# Altium footprint library 19C2830103-JOB.PcbLib: 69 footprints (part 6 of 6)
Each footprint in its own frame and in the unit in brackets; x right, y up, seen from the top. Pads: shape width x height; smd on the part's side, far side on the other; paste and mask are expansions set on the pad; w line width, h text height; cw(c..) or ccw(c..) is an arc to the next point about the centre after c.
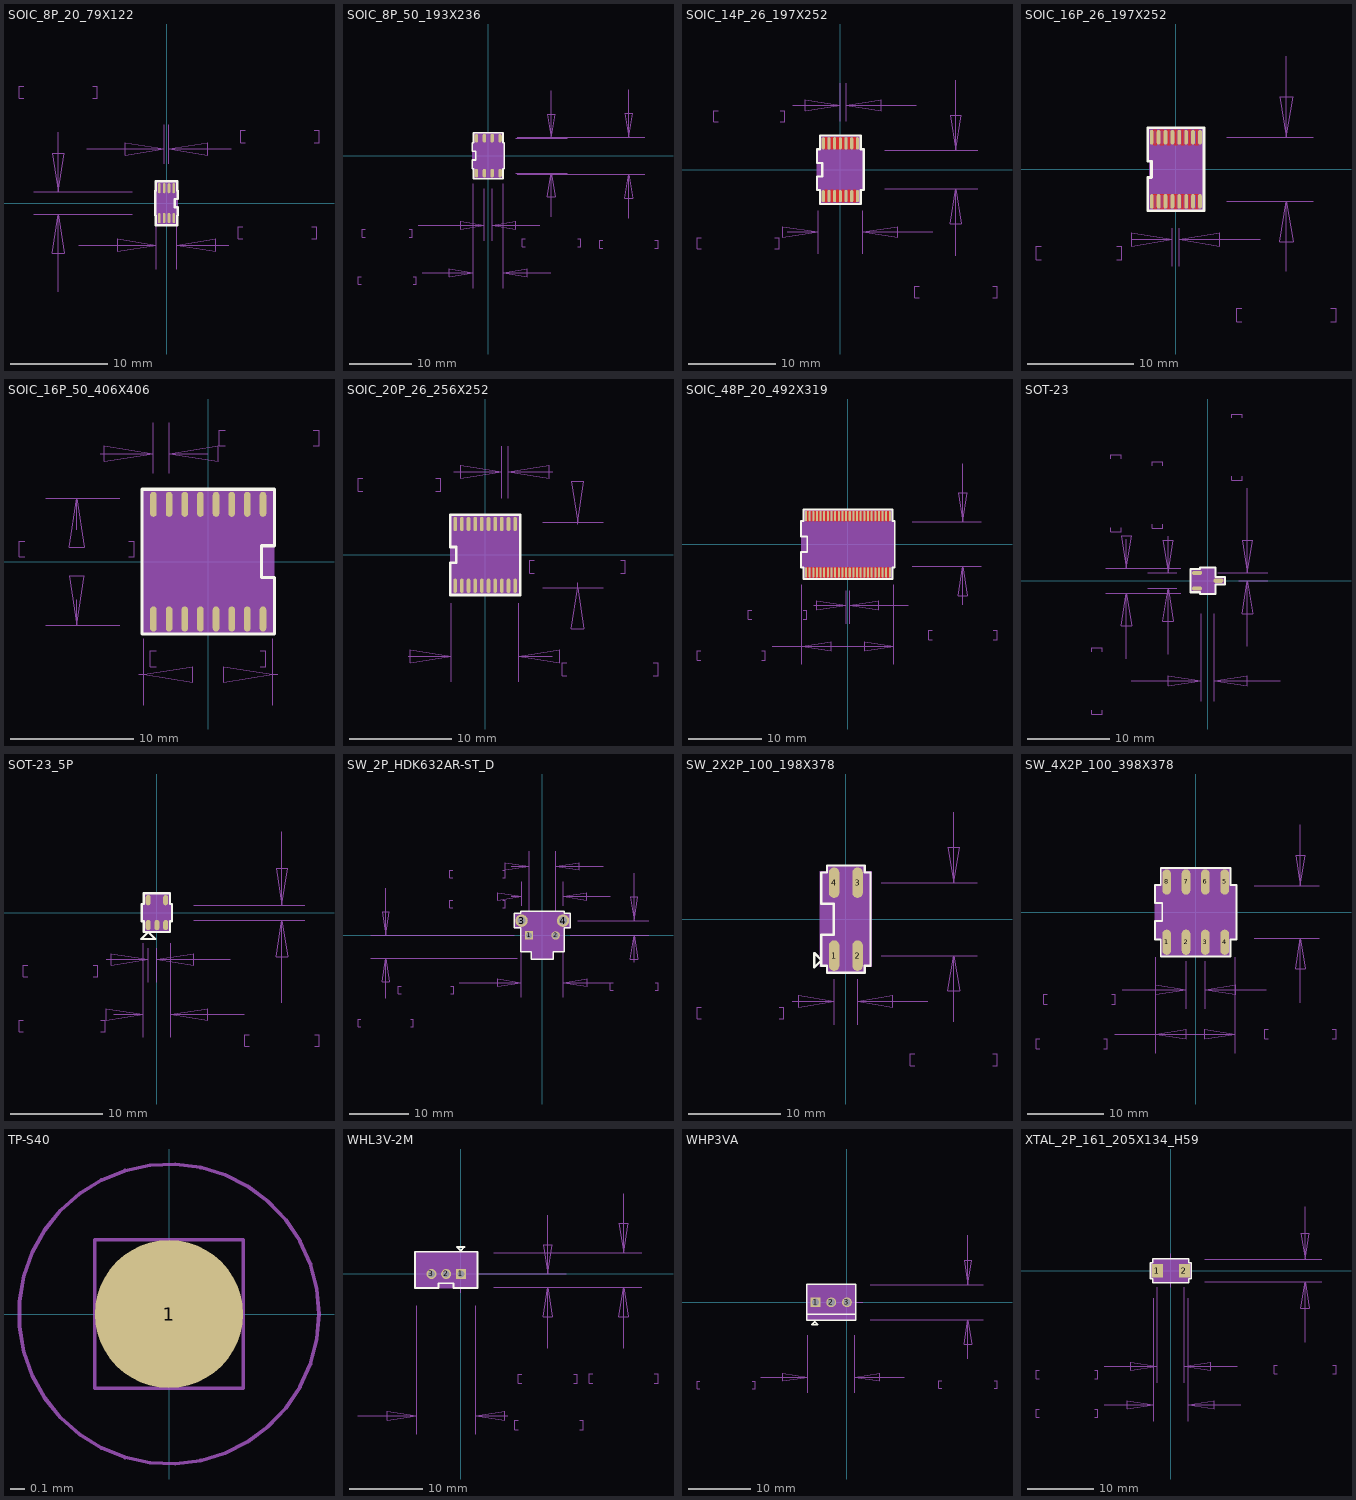
[diagram p5: the footprints below, top view; thin cyan lines are the x and y axes]

## SOIC_8P_20_79X122 [mil] "SOIC_8P_20_79X122"
pads (8):
  oval 11x41 smd: 1(29.53,60.61) 2(9.84,60.61) 3(-9.84,60.61) 4(-29.53,60.61) 5(-29.53,-60.61) 6(-9.84,-60.61) 7(9.84,-60.61) 8(29.53,-60.61)
Top Overlay:
  lines w10: -46.34,-50.28 -43.03,-50.28 -43.03,-89.11 43.03,-89.11 43.03,-50.28 46.34,-50.28 46.34,-16.76 32.93,-16.76 32.93,16.76 46.34,16.76 46.34,50.28 43.03,50.28 43.03,89.11 -43.03,89.11 -43.03,50.28 -46.34,50.28 -46.34,-50.28
  text ".Designator" at 5.4,15 h36
Mechanical 15:
  text "2" at -1.36,60.61 h28
  text "8" at 18.33,-60.61 h28
  text "7" at -1.36,-60.61 h28
  text "1" at 18.33,60.61 h28
  text "5" at -40.73,-60.61 h28
  text "4" at -40.73,60.61 h28
  text "6" at -21.04,-60.61 h28
  text "3" at -21.04,60.61 h28
Mechanical 16:
  pour cut-out: -43.03,-89.11 -43.03,-50.28 -46.34,-50.28 -46.34,50.28 -43.03,50.28 -43.03,89.11 43.03,89.11 43.03,50.28 46.34,50.28 46.34,-50.28 43.03,-50.28 43.03,-89.11
  region: 35.04,61.03 35.04,45.28 41.34,45.28 41.34,-45.28 35.04,-45.28 35.04,-61.03 24.02,-61.03 24.02,-45.28 15.35,-45.28 15.35,-61.03 4.33,-61.03 4.33,-45.28 -4.33,-45.28 -4.33,-61.03 -15.35,-61.03 -15.35,-45.28 -24.02,-45.28 -24.02,-61.03 -35.04,-61.03 -35.04,-45.28 -41.34,-45.28 -41.34,45.28 -35.04,45.28 -35.04,61.03 -24.02,61.03 -24.02,45.28 -15.35,45.28 -15.35,61.03 -4.33,61.03 -4.33,45.28 4.33,45.28 4.33,61.03 15.35,61.03 15.35,45.28 24.02,45.28 24.02,61.03
  lines w1: -580,425 -599,425 -599,475 -580,475 ; -538.43,-45.28 -139.76,-45.28 ; -538.43,45.28 -139.76,45.28 ; -440,-360.24 -440,-45.28 ; -440,287.5 -440,45.28 ; -356.3,-170 -41.34,-170 ; -324.8,220 -9.84,220 ; -300,425 -281,425 -281,475 -300,475 ; -41.34,-268.43 -41.34,-53.15 ; -9.84,159.04 -9.84,318.43 ; 9.84,159.04 9.84,318.43 ; 41.34,-268.43 41.34,-53.15 ; 253.5,-170 41.34,-170 ; 263.5,220 9.84,220 ; 310,-145 291,-145 291,-95 310,-95 ; 320,245 301,245 301,295 320,295 ; 590,-145 609,-145 609,-95 590,-95 ; 600,245 619,245 619,295 600,295 ; -440,-45.28 -415.39,-202.76 -464.61,-202.76 -440,-45.28 ; -440,45.28 -464.61,202.76 -415.39,202.76 -440,45.28 ; -41.34,-170 -198.82,-194.61 -198.82,-145.39 -41.34,-170 ; -9.84,220 -167.32,195.39 -167.32,244.61 -9.84,220 ; 9.84,220 167.32,244.61 167.32,195.39 9.84,220 ; 41.34,-170 198.82,-145.39 198.82,-194.61 41.34,-170 ; -41.34,-45.28 41.34,-45.28 41.34,45.28 -41.34,45.28 -41.34,-45.28 ; -35.04,-61.03 -24.02,-61.03 -24.02,-50.03 -35.04,-50.03 -35.04,-61.03 ; -35.04,50.03 -24.02,50.03 -24.02,61.03 -35.04,61.03 -35.04,50.03 ; -15.35,-61.03 -4.33,-61.03 -4.33,-50.03 -15.35,-50.03 -15.35,-61.03 ; -15.35,50.03 -4.33,50.03 -4.33,61.03 -15.35,61.03 -15.35,50.03 ; 4.33,-61.03 15.35,-61.03 15.35,-50.03 4.33,-50.03 4.33,-61.03 ; 4.33,50.03 15.35,50.03 15.35,61.03 4.33,61.03 4.33,50.03 ; 24.02,-61.03 35.04,-61.03 35.04,-50.03 24.02,-50.03 24.02,-61.03 ; 24.02,50.03 35.04,50.03 35.04,61.03 24.02,61.03 24.02,50.03
Mechanical 17:
  text "0.5" at 530,195 h36
  text "19.69" at 581,295 h36
  text "2.1" at 520,-195 h36
  text "82.68" at 571,-95 h36
  text "2.3" at -370,375 h36
  text "90.55" at -319,475 h36
3D body: height 150, standoff 0, extent -41.34,-61.03 41.34,61.03

## SOIC_8P_50_193X236 [mil] "SOIC_8P_50_193X236"
pads (8):
  oval 21x55 smd: 1(-75,-110.61) 2(-25,-110.61) 3(25,-110.61) 4(75,-110.61) 5(75,110.61) 6(25,110.61) 7(-25,110.61) 8(-75,110.61)
Top Overlay:
  lines w10: -101.5,-82 -101.5,-27.33 -79.63,-27.33 -79.63,27.33 -101.5,27.33 -101.5,82 -93.5,82 -93.5,146.11 93.5,146.11 93.5,82 101.5,82 101.5,-82 93.5,-82 93.5,-146.11 -93.5,-146.11 -93.5,-82 -101.5,-82
Mechanical 15:
  text "8" at -63.8,110.61 h28
  text "6" at 36.2,110.61 h28
  text "4" at 86.2,-110.61 h28
  text "3" at 36.2,-110.61 h28
  text "2" at -13.8,-110.61 h28
  text "1" at -63.8,-110.61 h28
  text "5" at 86.2,110.61 h28
  text "7" at -13.8,110.61 h28
Mechanical 16:
  pour cut-out: -93.5,82 -93.5,146.11 93.5,146.11 93.5,82 101.5,82 101.5,-82 93.5,-82 93.5,-146.11 -93.5,-146.11 -93.5,-82 -101.5,-82 -101.5,82
  region: -83.46,-118.03 -83.46,-77 -96.5,-77 -96.5,77 -83.46,77 -83.46,118.03 -66.54,118.03 -66.54,77 -33.46,77 -33.46,118.03 -16.54,118.03 -16.54,77 16.54,77 16.54,118.03 33.46,118.03 33.46,77 66.54,77 66.54,118.03 83.46,118.03 83.46,77 96.5,77 96.5,-77 83.46,-77 83.46,-118.03 66.54,-118.03 66.54,-77 33.46,-77 33.46,-118.03 16.54,-118.03 16.54,-77 -16.54,-77 -16.54,-118.03 -33.46,-118.03 -33.46,-77 -66.54,-77 -66.54,-118.03
  lines w1: -805.5,-815 -824.5,-815 -824.5,-765 -805.5,-765 ; -780,-515 -799,-515 -799,-465 -780,-465 ; -500,-515 -481,-515 -481,-465 -500,-465 ; -474.5,-815 -455.5,-815 -455.5,-765 -474.5,-765 ; -443.5,-440 -25,-440 ; -418,-740 -96.5,-740 ; -96.5,-840 -96.5,-177 ; -25,-540 -25,-210.61 ; 25,-540 25,-210.61 ; 96.5,-840 96.5,-177 ; 175,-110.61 500,-110.61 ; 175,110.61 500,110.61 ; 183.46,-118.03 990,-118.03 ; 183.46,118.03 990,118.03 ; 234.5,-575 215.5,-575 215.5,-525 234.5,-525 ; 325,-440 25,-440 ; 396.5,-740 96.5,-740 ; 400,-387.5 400,-110.61 ; 400,410.61 400,110.61 ; 565.5,-575 584.5,-575 584.5,-525 565.5,-525 ; 724.5,-585 705.5,-585 705.5,-535 724.5,-535 ; 890,-397.5 890,-118.03 ; 890,418.03 890,118.03 ; 1055.5,-585 1074.5,-585 1074.5,-535 1055.5,-535 ; -96.5,-740 -246.5,-765 -246.5,-715 -96.5,-740 ; -25,-440 -175,-465 -175,-415 -25,-440 ; 25,-440 175,-415 175,-465 25,-440 ; 96.5,-740 246.5,-715 246.5,-765 96.5,-740 ; 400,-110.61 425,-260.61 375,-260.61 400,-110.61 ; 400,110.61 375,260.61 425,260.61 400,110.61 ; 890,-118.03 915,-268.03 865,-268.03 890,-118.03 ; 890,118.03 865,268.03 915,268.03 890,118.03 ; -96.5,-77 -96.5,77 96.5,77 96.5,-77 -96.5,-77 ; -83.46,-118.03 -83.46,-93.03 -66.54,-93.03 -66.54,-118.03 -83.46,-118.03 ; -83.46,93.03 -83.46,118.03 -66.54,118.03 -66.54,93.03 -83.46,93.03 ; -33.46,-118.03 -33.46,-93.03 -16.54,-93.03 -16.54,-118.03 -33.46,-118.03 ; -33.46,93.03 -33.46,118.03 -16.54,118.03 -16.54,93.03 -33.46,93.03 ; 16.54,-118.03 16.54,-93.03 33.46,-93.03 33.46,-118.03 16.54,-118.03 ; 16.54,93.03 16.54,118.03 33.46,118.03 33.46,93.03 16.54,93.03 ; 66.54,-118.03 66.54,-93.03 83.46,-93.03 83.46,-118.03 66.54,-118.03 ; 66.54,93.03 66.54,118.03 83.46,118.03 83.46,93.03 66.54,93.03
Mechanical 17:
  text "50.00" at -761,-515 h36
  text "1.27" at -735.5,-415 h36
  text "193.00" at -786.5,-815 h36
  text "4.9" at -710,-715 h36
  text "236.06" at 743.5,-585 h36
  text "6" at 871,-485 h36
  text "221.22" at 253.5,-575 h36
  text "5.62" at 304.5,-475 h36
Mechanical 21:
  text ".Designator" at 33.6,13.5 h28
3D body: height 150, standoff 0, extent -96.5,-118.03 96.5,118.03

## SOIC_14P_26_197X252 [mil] "SOIC_14P_26_197X252"
pads (14):
  oval 14x55 smd: 1(-76.77,-118.68) 2(-51.18,-118.68) 3(-25.59,-118.68) 4(0,-118.68) 5(25.59,-118.68) 6(51.18,-118.68) 7(76.77,-118.68) 8(76.77,118.68) 9(51.18,118.68) 10(25.59,118.68) 11(0,118.68) 12(-25.59,118.68) 13(-51.18,118.68) 14(-76.77,118.68)
Top Layer:
  region: 63.97,91.18 69.77,91.18 69.77,146.18 63.97,146.18
  region: 58.18,91.18 63.98,91.18 63.98,146.18 58.18,146.18
  region: 38.38,91.18 44.18,91.18 44.18,146.18 38.38,146.18
  region: 32.59,91.18 38.38,91.18 38.38,146.18 32.59,146.18
  region: 12.8,91.18 18.59,91.18 18.59,146.18 12.8,146.18
  region: 7,91.18 12.8,91.18 12.8,146.18 7,146.18
  region: -12.8,91.18 -7,91.18 -7,146.18 -12.8,146.18
  region: -18.59,91.18 -12.8,91.18 -12.8,146.18 -18.59,146.18
  region: -38.38,91.18 -32.59,91.18 -32.59,146.18 -38.38,146.18
  region: -44.18,91.18 -38.38,91.18 -38.38,146.18 -44.18,146.18
  region: -63.98,91.18 -58.18,91.18 -58.18,146.18 -63.98,146.18
  region: -69.77,91.18 -63.97,91.18 -63.97,146.18 -69.77,146.18
  region: 63.97,-146.18 69.77,-146.18 69.77,-91.18 63.97,-91.18
  region: 58.18,-146.18 63.98,-146.18 63.98,-91.18 58.18,-91.18
  region: 38.38,-146.18 44.18,-146.18 44.18,-91.18 38.38,-91.18
  region: 32.59,-146.18 38.38,-146.18 38.38,-91.18 32.59,-91.18
  region: 12.8,-146.18 18.59,-146.18 18.59,-91.18 12.8,-91.18
  region: 7,-146.18 12.8,-146.18 12.8,-91.18 7,-91.18
  region: -12.8,-146.18 -7,-146.18 -7,-91.18 -12.8,-91.18
  region: -18.59,-146.18 -12.8,-146.18 -12.8,-91.18 -18.59,-91.18
  region: -38.38,-146.18 -32.59,-146.18 -32.59,-91.18 -38.38,-91.18
  region: -44.18,-146.18 -38.38,-146.18 -38.38,-91.18 -44.18,-91.18
  region: -63.98,-146.18 -58.18,-146.18 -58.18,-91.18 -63.98,-91.18
  region: -69.77,-146.18 -63.97,-146.18 -63.97,-91.18 -69.77,-91.18
Top Overlay:
  lines w10: -105.39,-91.61 -105.39,-30.54 -80.96,-30.54 -80.96,30.54 -105.39,30.54 -105.39,91.61 -91.77,91.61 -91.77,154.18 91.77,154.18 91.77,91.61 105.39,91.61 105.39,-91.61 91.77,-91.61 91.77,-154.18 -91.77,-154.18 -91.77,-91.61 -105.39,-91.61
Mechanical 15:
  text "14" at -76.77,96.28 h28
  text "8" at 76.77,107.48 h28
  text "6" at 51.18,-129.88 h28
  text "2" at -51.18,-129.88 h28
  text "1" at -76.77,-129.88 h28
  text "9" at 51.18,107.48 h28
  text "11" at 0,96.28 h28
  text "4" at 0,-129.88 h28
  text "12" at -25.59,96.28 h28
  text "10" at 25.59,96.28 h28
  text "5" at 25.59,-129.88 h28
  text "13" at -51.18,96.28 h28
  text "7" at 76.77,-129.88 h28
  text "3" at -25.59,-129.88 h28
Mechanical 16:
  drawing of 110 lines, arcs and shapes, not listed
Mechanical 17:
  text "173.23" at 373.5,-575 h36
  text "4.4" at 450,-475 h36
  text "200.79" at -606.5,-355 h36
  text "5.1" at -530,-255 h36
  text "25.59" at -531,215 h36
  text "0.65" at -505.5,315 h36
Mechanical 21:
  text ".Designator" at 0,-20.1 h28
3D body: height 150, standoff 0, extent -100.39,-126.1 100.39,126.1

## SOIC_16P_26_197X252 [mil] "SOIC_16P_26_197X252"
pads (16):
  oval 14x54 smd: 1(-89.57,-118.98) 2(-63.98,-118.98) 3(-38.39,-118.98) 4(-12.8,-118.98) 5(12.8,-118.98) 6(38.39,-118.98) 7(63.98,-118.98) 8(89.57,-118.98) 9(89.57,118.98) 10(63.98,118.98) 11(38.39,118.98) 12(12.8,118.98) 13(-12.8,118.98) 14(-38.39,118.98) 15(-63.98,118.98) 16(-89.57,118.98)
Top Layer:
  lines w1: -76.77,-145.98 -82.57,-145.98 -82.57,-91.98 -76.77,-91.98 ; -76.77,-145.98 -76.77,-91.98 ; -76.77,-145.98 -70.98,-145.98 -70.98,-91.98 -76.77,-91.98 ; -76.77,-145.98 -76.77,-91.98 ; -76.77,91.98 -82.57,91.98 -82.57,145.98 -76.77,145.98 ; -76.77,91.98 -76.77,145.98 ; -76.77,91.98 -70.98,91.98 -70.98,145.98 -76.77,145.98 ; -76.77,91.98 -76.77,145.98 ; -51.18,-145.98 -56.98,-145.98 -56.98,-91.98 -51.18,-91.98 ; -51.18,-145.98 -51.18,-91.98 ; -51.18,-145.98 -45.39,-145.98 -45.39,-91.98 -51.18,-91.98 ; -51.18,-145.98 -51.18,-91.98 ; -51.18,91.98 -56.98,91.98 -56.98,145.98 -51.18,145.98 ; -51.18,91.98 -51.18,145.98 ; -51.18,91.98 -45.39,91.98 -45.39,145.98 -51.18,145.98 ; -51.18,91.98 -51.18,145.98 ; -25.6,-145.98 -31.39,-145.98 -31.39,-91.98 -25.6,-91.98 ; -25.6,-145.98 -25.6,-91.98 ; -25.6,-145.98 -19.8,-145.98 -19.8,-91.98 -25.6,-91.98 ; -25.6,-145.98 -25.6,-91.98 ; -25.6,91.98 -31.39,91.98 -31.39,145.98 -25.6,145.98 ; -25.6,91.98 -25.6,145.98 ; -25.6,91.98 -19.8,91.98 -19.8,145.98 -25.6,145.98 ; -25.6,91.98 -25.6,145.98 ; -0.01,-145.98 -5.8,-145.98 -5.8,-91.98 -0.01,-91.98 ; -0.01,-145.98 -0.01,-91.98 ; 0.01,-145.98 5.8,-145.98 5.8,-91.98 0.01,-91.98 ; 0.01,-145.98 0.01,-91.98 ; -0.01,91.98 -5.8,91.98 -5.8,145.98 -0.01,145.98 ; -0.01,91.98 -0.01,145.98 ; 0.01,91.98 5.8,91.98 5.8,145.98 0.01,145.98 ; 0.01,91.98 0.01,145.98 ; 25.6,-145.98 19.8,-145.98 19.8,-91.98 25.6,-91.98 ; 25.6,-145.98 25.6,-91.98 ; 25.6,-145.98 31.39,-145.98 31.39,-91.98 25.6,-91.98 ; 25.6,-145.98 25.6,-91.98 ; 25.6,91.98 19.8,91.98 19.8,145.98 25.6,145.98 ; 25.6,91.98 25.6,145.98 ; 25.6,91.98 31.39,91.98 31.39,145.98 25.6,145.98 ; 25.6,91.98 25.6,145.98 ; 51.18,-145.98 45.39,-145.98 45.39,-91.98 51.18,-91.98 ; 51.18,-145.98 51.18,-91.98 ; 51.18,-145.98 56.98,-145.98 56.98,-91.98 51.18,-91.98 ; 51.18,-145.98 51.18,-91.98 ; 51.18,91.98 45.39,91.98 45.39,145.98 51.18,145.98 ; 51.18,91.98 51.18,145.98 ; 51.18,91.98 56.98,91.98 56.98,145.98 51.18,145.98 ; 51.18,91.98 51.18,145.98 ; 76.77,-145.98 70.98,-145.98 70.98,-91.98 76.77,-91.98 ; 76.77,-145.98 76.77,-91.98 ; 76.77,-145.98 82.57,-145.98 82.57,-91.98 76.77,-91.98 ; 76.77,-145.98 76.77,-91.98 ; 76.77,91.98 70.98,91.98 70.98,145.98 76.77,145.98 ; 76.77,91.98 76.77,145.98 ; 76.77,91.98 82.57,91.98 82.57,145.98 76.77,145.98 ; 76.77,91.98 76.77,145.98
Top Overlay:
  lines w10: -104.57,-153.98 -94.57,-153.98 104.57,-153.98 104.57,-143.98 104.57,153.98 94.57,153.98 -104.57,153.98 -104.57,30 -90,30 -90,-30 -104.57,-30 -104.57,-153.98
Mechanical 15:
  text "6" at 27.19,-118.98 h28
  text "5" at 1.6,-118.98 h28
  text "7" at 52.78,-118.98 h28
  text "4" at -24,-118.98 h28
  text "16" at -111.97,118.98 h28
  text "1" at -100.77,-118.98 h28
  text "11" at 15.99,118.98 h28
  text "10" at 41.58,118.98 h28
  text "15" at -86.38,118.98 h28
  text "9" at 78.37,118.98 h28
  text "14" at -60.79,118.98 h28
  text "2" at -75.18,-118.98 h28
  text "3" at -49.59,-118.98 h28
  text "8" at 78.37,-118.98 h28
  text "13" at -35.2,118.98 h28
  text "12" at -9.6,118.98 h28
Mechanical 16:
  pour cut-out: -104.57,153.98 104.57,153.98 104.57,-153.98 -104.57,-153.98 -104.57,-30 -90,-30 -90,30 -104.57,30
  region: -96.65,-125.91 -96.65,-86.61 -98.43,-86.61 -98.43,86.61 -96.65,86.61 -96.65,125.91 -82.48,125.91 -82.48,86.61 -71.06,86.61 -71.06,125.91 -56.89,125.91 -56.89,86.61 -45.47,86.61 -45.47,125.91 -31.3,125.91 -31.3,86.61 -19.88,86.61 -19.88,125.91 -5.71,125.91 -5.71,86.61 5.71,86.61 5.71,125.91 19.88,125.91 19.88,86.61 31.3,86.61 31.3,125.91 45.47,125.91 45.47,86.61 56.89,86.61 56.89,125.91 71.06,125.91 71.06,86.61 82.48,86.61 82.48,125.91 96.65,125.91 96.65,86.61 98.43,86.61 98.43,-86.61 96.65,-86.61 96.65,-125.91 82.48,-125.91 82.48,-86.61 71.06,-86.61 71.06,-125.91 56.89,-125.91 56.89,-86.61 45.47,-86.61 45.47,-125.91 31.3,-125.91 31.3,-86.61 19.88,-86.61 19.88,-125.91 5.71,-125.91 5.71,-86.61 -5.71,-86.61 -5.71,-125.91 -19.88,-125.91 -19.88,-86.61 -31.3,-86.61 -31.3,-125.91 -45.47,-125.91 -45.47,-86.61 -56.89,-86.61 -56.89,-125.91 -71.06,-125.91 -71.06,-86.61 -82.48,-86.61 -82.48,-125.91
  lines w1: -500,-335 -519,-335 -519,-285 -500,-285 ; -220,-335 -201,-335 -201,-285 -220,-285 ; -163.5,-260 -12.8,-260 ; -12.8,-360 -12.8,-218.98 ; 12.8,-360 12.8,-218.98 ; 189.57,-118.98 510,-118.98 ; 189.57,118.98 510,118.98 ; 244.5,-565 225.5,-565 225.5,-515 244.5,-515 ; 312.8,-260 12.8,-260 ; 410,-377.5 410,-118.98 ; 410,418.98 410,118.98 ; 575.5,-565 594.5,-565 594.5,-515 575.5,-515 ; -12.8,-260 -162.8,-285 -162.8,-235 -12.8,-260 ; 12.8,-260 162.8,-235 162.8,-285 12.8,-260 ; 410,-118.98 435,-268.98 385,-268.98 410,-118.98 ; 410,118.98 385,268.98 435,268.98 410,118.98
Mechanical 17:
  text "0.65" at -455.5,-235 h36
  text "25.59" at -481,-335 h36
  text "6.04" at 314.5,-465 h36
  text "237.97" at 263.5,-565 h36
3D body: height 150, standoff 0, extent -98.43,-125.91 98.43,125.91

## SOIC_16P_50_406X406 [mil] "SOIC_16P_50_406X406"
pads (16):
  oval 21x80 smd: 1(175,183.25) 2(125,183.25) 3(75,183.25) 4(25,183.25) 5(-25,183.25) 6(-75,183.25) 7(-125,183.25) 8(-175,183.25) 9(-175,-183.25) 10(-125,-183.25) 11(-75,-183.25) 12(-25,-183.25) 13(25,-183.25) 14(75,-183.25) 15(125,-183.25) 16(175,-183.25)
Top Overlay:
  lines w10: -211.5,-231.25 211.5,-231.25 211.5,-51.01 170.69,-51.01 170.69,51.01 211.5,51.01 211.5,231.25 -211.5,231.25 -211.5,-231.25
  text ".Designator" at -12.8,-248.67 h28
Mechanical 15:
  text "16" at 155,-183.25 h25
  text "2" at 115,183.25 h25
  text "9" at -185,-183.25 h25
  text "1" at 165,183.25 h25
  text "8" at -185,183.25 h25
  text "10" at -145,-183.25 h25
  text "15" at 105,-183.25 h25
  text "7" at -135,183.25 h25
  text "14" at 55,-183.25 h25
  text "13" at 5,-183.25 h25
  text "12" at -45,-183.25 h25
  text "11" at -95,-183.25 h25
  text "6" at -85,183.25 h25
  text "5" at -35,183.25 h25
  text "4" at 15,183.25 h25
  text "3" at 65,183.25 h25
Mechanical 16:
  drawing of 118 lines, arcs and shapes, not listed
Mechanical 17:
  text "10.32" at -299,-35 h50
  text "406.34" at -273.5,65 h50
  text "10.49" at 121,-385 h50
  text "413.00" at 146.5,-285 h50
  text "1.27" at 290.5,320 h50
  text "50.00" at 316,420 h50
3D body: height 150, standoff 0, extent -206.5,-203.17 206.5,203.17

## SOIC_20P_26_256X252 [mil] "SOIC_20P_26_256X252"
pads (20):
  oval 14x55 smd: 1(-115.16,-118.68) 2(-89.57,-118.68) 3(-63.98,-118.68) 4(-38.39,-118.68) 5(-12.8,-118.68) 6(12.8,-118.68) 7(38.39,-118.68) 8(63.98,-118.68) 9(89.57,-118.68) 10(115.16,-118.68) 11(115.16,118.68) 12(89.57,118.68) 13(63.98,118.68) 14(38.39,118.68) 15(12.8,118.68) 16(-12.8,118.68) 17(-38.39,118.68) 18(-63.98,118.68) 19(-89.57,118.68) 20(-115.16,118.68)
Top Overlay:
  lines w10: -134.92,-154.18 134.92,-154.18 ; -134.92,-154.17 -134.92,-30.54 -110.49,-30.54 -110.49,30.54 -134.92,30.54 -134.92,154.17 ; -134.92,154.18 134.92,154.18 ; 134.92,-154.17 134.92,154.17
Mechanical 15:
  text "14" at 38.39,96.28 h28
  text "13" at 63.98,96.28 h28
  text "15" at 12.8,96.28 h28
  text "16" at -12.8,96.28 h28
  text "17" at -38.39,96.28 h28
  text "18" at -63.98,96.28 h28
  text "20" at -115.16,96.28 h28
  text "19" at -89.57,96.28 h28
  text "2" at -89.57,-129.88 h28
  text "10" at 115.16,-141.08 h28
  text "11" at 115.16,96.28 h28
  text "9" at 89.57,-129.88 h28
  text "12" at 89.57,96.28 h28
  text "6" at 12.8,-129.88 h28
  text "5" at -12.8,-129.88 h28
  text "4" at -38.39,-129.88 h28
  text "3" at -63.98,-129.88 h28
  text "1" at -115.16,-129.88 h28
  text "8" at 63.98,-129.88 h28
  text "7" at 38.39,-129.88 h28
Mechanical 16:
  pour cut-out: 134.92,154.18 134.92,-154.18 -134.92,-154.18 -134.92,154.18
  region: -122.24,-126.1 -122.24,-86.61 -129.92,-86.61 -129.92,86.61 -122.24,86.61 -122.24,126.1 122.24,126.1 122.24,86.61 129.92,86.61 129.92,-86.61 122.24,-86.61 122.24,-126.1
  lines w1: -470,245 -489,245 -489,295 -470,295 ; -295,-390 -129.92,-390 ; -190,245 -171,245 -171,295 -190,295 ; -129.92,-488.43 -129.92,-185.04 ; -120,320 63.98,320 ; 63.98,217.11 63.98,418.43 ; 89.57,217.11 89.57,418.43 ; 129.92,-488.43 129.92,-185.04 ; 189.5,-70 170.5,-70 170.5,-20 189.5,-20 ; 220.67,-126.1 453.43,-126.1 ; 220.67,126.1 453.43,126.1 ; 258,-390 129.92,-390 ; 260,320 89.57,320 ; 314.5,-465 295.5,-465 295.5,-415 314.5,-415 ; 355,-107.5 355,-126.1 ; 355,117.5 355,126.1 ; 520.5,-70 539.5,-70 539.5,-20 520.5,-20 ; 645.5,-465 664.5,-465 664.5,-415 645.5,-415 ; -129.92,-390 -287.4,-414.6 -287.4,-365.4 -129.92,-390 ; 63.98,320 -93.5,295.4 -93.5,344.6 63.98,320 ; 89.57,320 247.05,344.6 247.05,295.4 89.57,320 ; 129.92,-390 287.4,-365.4 287.4,-414.6 129.92,-390 ; 355,-126.1 379.6,-283.58 330.4,-283.58 355,-126.1 ; 355,126.1 330.4,283.58 379.6,283.58 355,126.1 ; -129.92,-86.61 129.92,-86.61 129.92,86.61 -129.92,86.61 -129.92,-86.61 ; -122.24,-126.1 -108.07,-126.1 -108.07,-101.5 -122.24,-101.5 -122.24,-126.1 ; -122.24,101.5 -108.07,101.5 -108.07,126.1 -122.24,126.1 -122.24,101.5 ; -96.65,-126.1 -82.48,-126.1 -82.48,-101.5 -96.65,-101.5 -96.65,-126.1 ; -96.65,101.5 -82.48,101.5 -82.48,126.1 -96.65,126.1 -96.65,101.5 ; -71.06,-126.1 -56.89,-126.1 -56.89,-101.5 -71.06,-101.5 -71.06,-126.1 ; -71.06,101.5 -56.89,101.5 -56.89,126.1 -71.06,126.1 -71.06,101.5 ; -45.47,-126.1 -31.3,-126.1 -31.3,-101.5 -45.47,-101.5 -45.47,-126.1 ; -45.47,101.5 -31.3,101.5 -31.3,126.1 -45.47,126.1 -45.47,101.5 ; -19.88,-126.1 -5.71,-126.1 -5.71,-101.5 -19.88,-101.5 -19.88,-126.1 ; -19.88,101.5 -5.71,101.5 -5.71,126.1 -19.88,126.1 -19.88,101.5 ; 5.71,-126.1 19.88,-126.1 19.88,-101.5 5.71,-101.5 5.71,-126.1 ; 5.71,101.5 19.88,101.5 19.88,126.1 5.71,126.1 5.71,101.5 ; 31.3,-126.1 45.47,-126.1 45.47,-101.5 31.3,-101.5 31.3,-126.1 ; 31.3,101.5 45.47,101.5 45.47,126.1 31.3,126.1 31.3,101.5 ; 56.89,-126.1 71.06,-126.1 71.06,-101.5 56.89,-101.5 56.89,-126.1 ; 56.89,101.5 71.06,101.5 71.06,126.1 56.89,126.1 56.89,101.5 ; 82.48,-126.1 96.65,-126.1 96.65,-101.5 82.48,-101.5 82.48,-126.1 ; 82.48,101.5 96.65,101.5 96.65,126.1 82.48,126.1 82.48,101.5 ; 108.07,-126.1 122.24,-126.1 122.24,-101.5 108.07,-101.5 108.07,-126.1 ; 108.07,101.5 122.24,101.5 122.24,126.1 108.07,126.1 108.07,101.5
Mechanical 17:
  text "6.41" at 259.5,30 h36
  text "252.20" at 208.5,-70 h36
  text "6.6" at 410,-365 h36
  text "259.84" at 333.5,-465 h36
  text "0.65" at -425.5,345 h36
  text "25.59" at -451,245 h36
3D body: height 150, standoff 0, extent -129.92,-126.1 129.92,126.1

## SOIC_48P_20_492X319 [mil] "SOIC_48P_20_492X319"
pads (48):
  oval 11x55 smd: 1(-226.38,-152.15) 2(-206.69,-152.15) 3(-187.01,-152.15) 4(-167.32,-152.15) 5(-147.64,-152.15) 6(-127.95,-152.15) 7(-108.27,-152.15) 8(-88.58,-152.15) 9(-68.9,-152.15) 10(-49.21,-152.15) 11(-29.53,-152.15) 12(-9.84,-152.15) 13(9.84,-152.15) 14(29.53,-152.15) 15(49.21,-152.15) 16(68.9,-152.15) 17(88.58,-152.15) 18(108.27,-152.15) 19(127.95,-152.15) 20(147.64,-152.15) 21(167.32,-152.15) 22(187.01,-152.15) 23(206.69,-152.15) 24(226.38,-152.15) 25(226.38,152.15) 26(206.69,152.15) 27(187.01,152.15) 28(167.32,152.15) 29(147.64,152.15) 30(127.95,152.15) 31(108.27,152.15) 32(88.58,152.15) 33(68.9,152.15) 34(49.21,152.15) 35(29.53,152.15) 36(9.84,152.15) 37(-9.84,152.15) 38(-29.53,152.15) 39(-49.21,152.15) 40(-68.9,152.15) 41(-88.58,152.15) 42(-108.27,152.15) 43(-127.95,152.15) 44(-147.64,152.15) 45(-167.32,152.15) 46(-187.01,152.15) 47(-206.69,152.15) 48(-226.38,152.15)
Top Layer:
  region: 216.54,124.65 216.54,179.65 220.88,179.65 220.88,124.65
  region: 212.19,124.65 212.19,179.65 216.54,179.65 216.54,124.65
  region: 196.84,124.65 196.84,179.65 201.19,179.65 201.19,124.65
  region: 192.51,124.65 192.51,179.65 196.86,179.65 196.86,124.65
  region: 177.16,124.65 177.16,179.65 181.51,179.65 181.51,124.65
  region: 172.82,124.65 172.82,179.65 177.16,179.65 177.16,124.65
  region: 157.48,124.65 157.48,179.65 161.82,179.65 161.82,124.65
  region: 153.14,124.65 153.14,179.65 157.48,179.65 157.48,124.65
  region: 137.79,124.65 137.79,179.65 142.14,179.65 142.14,124.65
  region: 133.45,124.65 133.45,179.65 137.8,179.65 137.8,124.65
  region: 118.1,124.65 118.1,179.65 122.45,179.65 122.45,124.65
  region: 113.77,124.65 113.77,179.65 118.12,179.65 118.12,124.65
  region: 98.42,124.65 98.42,179.65 102.77,179.65 102.77,124.65
  region: 94.08,124.65 94.08,179.65 98.42,179.65 98.42,124.65
  region: 78.74,124.65 78.74,179.65 83.08,179.65 83.08,124.65
  region: 74.4,124.65 74.4,179.65 78.74,179.65 78.74,124.65
  region: 59.06,124.65 59.06,179.65 63.4,179.65 63.4,124.65
  region: 54.71,124.65 54.71,179.65 59.06,179.65 59.06,124.65
  region: 39.36,124.65 39.36,179.65 43.71,179.65 43.71,124.65
  region: 35.03,124.65 35.03,179.65 39.38,179.65 39.38,124.65
  region: 19.69,124.65 19.69,179.65 24.03,179.65 24.03,124.65
  region: 15.34,124.65 15.34,179.65 19.69,179.65 19.69,124.65
  region: -0.01,124.65 -0.01,179.65 4.34,179.65 4.34,124.65
  region: -4.34,124.65 -4.34,179.65 0.01,179.65 0.01,124.65
  region: -19.69,124.65 -19.69,179.65 -15.34,179.65 -15.34,124.65
  region: -24.03,124.65 -24.03,179.65 -19.69,179.65 -19.69,124.65
  region: -39.38,124.65 -39.38,179.65 -35.03,179.65 -35.03,124.65
  region: -43.71,124.65 -43.71,179.65 -39.36,179.65 -39.36,124.65
  region: -59.06,124.65 -59.06,179.65 -54.71,179.65 -54.71,124.65
  region: -63.4,124.65 -63.4,179.65 -59.06,179.65 -59.06,124.65
  region: -78.74,124.65 -78.74,179.65 -74.4,179.65 -74.4,124.65
  region: -83.08,124.65 -83.08,179.65 -78.74,179.65 -78.74,124.65
  region: -98.42,124.65 -98.42,179.65 -94.08,179.65 -94.08,124.65
  region: -102.77,124.65 -102.77,179.65 -98.42,179.65 -98.42,124.65
  region: -118.12,124.65 -118.12,179.65 -113.77,179.65 -113.77,124.65
  region: -122.45,124.65 -122.45,179.65 -118.1,179.65 -118.1,124.65
  region: -137.8,124.65 -137.8,179.65 -133.45,179.65 -133.45,124.65
  region: -142.14,124.65 -142.14,179.65 -137.79,179.65 -137.79,124.65
  region: -157.48,124.65 -157.48,179.65 -153.14,179.65 -153.14,124.65
  region: -161.82,124.65 -161.82,179.65 -157.48,179.65 -157.48,124.65
  region: -177.16,124.65 -177.16,179.65 -172.82,179.65 -172.82,124.65
  region: -181.51,124.65 -181.51,179.65 -177.16,179.65 -177.16,124.65
  region: -196.86,124.65 -196.86,179.65 -192.51,179.65 -192.51,124.65
  region: -201.19,124.65 -201.19,179.65 -196.84,179.65 -196.84,124.65
  region: -216.54,124.65 -216.54,179.65 -212.19,179.65 -212.19,124.65
  region: -220.88,124.65 -220.88,179.65 -216.54,179.65 -216.54,124.65
  region: 216.54,-179.65 216.54,-124.65 220.88,-124.65 220.88,-179.65
  region: 212.19,-179.65 212.19,-124.65 216.54,-124.65 216.54,-179.65
  region: 196.84,-179.65 196.84,-124.65 201.19,-124.65 201.19,-179.65
  region: 192.51,-179.65 192.51,-124.65 196.86,-124.65 196.86,-179.65
  region: 177.16,-179.65 177.16,-124.65 181.51,-124.65 181.51,-179.65
  region: 172.82,-179.65 172.82,-124.65 177.16,-124.65 177.16,-179.65
  region: 157.48,-179.65 157.48,-124.65 161.82,-124.65 161.82,-179.65
  region: 153.14,-179.65 153.14,-124.65 157.48,-124.65 157.48,-179.65
  region: 137.79,-179.65 137.79,-124.65 142.14,-124.65 142.14,-179.65
  region: 133.45,-179.65 133.45,-124.65 137.8,-124.65 137.8,-179.65
  region: 118.1,-179.65 118.1,-124.65 122.45,-124.65 122.45,-179.65
  region: 113.77,-179.65 113.77,-124.65 118.12,-124.65 118.12,-179.65
  region: 98.42,-179.65 98.42,-124.65 102.77,-124.65 102.77,-179.65
  region: 94.08,-179.65 94.08,-124.65 98.42,-124.65 98.42,-179.65
  region: 78.74,-179.65 78.74,-124.65 83.08,-124.65 83.08,-179.65
  region: 74.4,-179.65 74.4,-124.65 78.74,-124.65 78.74,-179.65
  region: 59.06,-179.65 59.06,-124.65 63.4,-124.65 63.4,-179.65
  region: 54.71,-179.65 54.71,-124.65 59.06,-124.65 59.06,-179.65
  region: 39.36,-179.65 39.36,-124.65 43.71,-124.65 43.71,-179.65
  region: 35.03,-179.65 35.03,-124.65 39.38,-124.65 39.38,-179.65
  region: 19.69,-179.65 19.69,-124.65 24.03,-124.65 24.03,-179.65
  region: 15.34,-179.65 15.34,-124.65 19.69,-124.65 19.69,-179.65
  region: -0.01,-179.65 -0.01,-124.65 4.34,-124.65 4.34,-179.65
  region: -4.34,-179.65 -4.34,-124.65 0.01,-124.65 0.01,-179.65
  region: -19.69,-179.65 -19.69,-124.65 -15.34,-124.65 -15.34,-179.65
  region: -24.03,-179.65 -24.03,-124.65 -19.69,-124.65 -19.69,-179.65
  region: -39.38,-179.65 -39.38,-124.65 -35.03,-124.65 -35.03,-179.65
  region: -43.71,-179.65 -43.71,-124.65 -39.36,-124.65 -39.36,-179.65
  region: -59.06,-179.65 -59.06,-124.65 -54.71,-124.65 -54.71,-179.65
  region: -63.4,-179.65 -63.4,-124.65 -59.06,-124.65 -59.06,-179.65
  region: -78.74,-179.65 -78.74,-124.65 -74.4,-124.65 -74.4,-179.65
  region: -83.08,-179.65 -83.08,-124.65 -78.74,-124.65 -78.74,-179.65
  region: -98.42,-179.65 -98.42,-124.65 -94.08,-124.65 -94.08,-179.65
  region: -102.77,-179.65 -102.77,-124.65 -98.42,-124.65 -98.42,-179.65
  region: -118.12,-179.65 -118.12,-124.65 -113.77,-124.65 -113.77,-179.65
  region: -122.45,-179.65 -122.45,-124.65 -118.1,-124.65 -118.1,-179.65
  region: -137.8,-179.65 -137.8,-124.65 -133.45,-124.65 -133.45,-179.65
  region: -142.14,-179.65 -142.14,-124.65 -137.79,-124.65 -137.79,-179.65
  region: -157.48,-179.65 -157.48,-124.65 -153.14,-124.65 -153.14,-179.65
  region: -161.82,-179.65 -161.82,-124.65 -157.48,-124.65 -157.48,-179.65
  region: -177.16,-179.65 -177.16,-124.65 -172.82,-124.65 -172.82,-179.65
  region: -181.51,-179.65 -181.51,-124.65 -177.16,-124.65 -177.16,-179.65
  region: -196.86,-179.65 -196.86,-124.65 -192.51,-124.65 -192.51,-179.65
  region: -201.19,-179.65 -201.19,-124.65 -196.84,-124.65 -196.84,-179.65
  region: -216.54,-179.65 -216.54,-124.65 -212.19,-124.65 -212.19,-179.65
  region: -220.88,-179.65 -220.88,-124.65 -216.54,-124.65 -216.54,-179.65
Top Overlay:
  lines w10: -253.03,-125.08 -253.03,-41.69 -219.68,-41.69 -219.68,41.69 -253.03,41.69 -253.03,125.08 -239.88,125.08 -239.88,187.65 239.88,187.65 239.88,125.08 253.03,125.08 253.03,-125.08 239.88,-125.08 239.88,-187.65 -239.88,-187.65 -239.88,-125.08 -253.03,-125.08
Mechanical 15:
  text "36" at -12.56,152.15 h28
  text "6" at -139.15,-152.15 h28
  text "19" at 105.55,-152.15 h28
  text "12" at -32.24,-152.15 h28
  text "1" at -237.58,-152.15 h28
  text "33" at 46.5,152.15 h28
  text "40" at -91.3,152.15 h28
  text "37" at -32.24,152.15 h28
  text "7" at -119.47,-152.15 h28
  text "13" at -12.56,-152.15 h28
  text "5" at -158.84,-152.15 h28
  text "22" at 164.61,-152.15 h28
  text "16" at 46.5,-152.15 h28
  text "11" at -51.93,-152.15 h28
  text "18" at 85.87,-152.15 h28
  text "20" at 125.24,-152.15 h28
  text "3" at -198.21,-152.15 h28
  text "9" at -80.1,-152.15 h28
  text "46" at -209.41,152.15 h28
  text "43" at -150.35,152.15 h28
  text "27" at 164.61,152.15 h28
  text "30" at 105.55,152.15 h28
  text "24" at 203.98,-152.15 h28
  text "35" at 7.13,152.15 h28
  text "41" at -110.98,152.15 h28
  text "42" at -130.67,152.15 h28
  text "47" at -229.09,152.15 h28
  text "48" at -248.78,152.15 h28
  text "29" at 125.24,152.15 h28
  text "34" at 26.81,152.15 h28
  text "15" at 26.81,-152.15 h28
  text "10" at -71.61,-152.15 h28
  text "8" at -99.78,-152.15 h28
  text "4" at -178.52,-152.15 h28
  text "2" at -217.89,-152.15 h28
  text "21" at 144.92,-152.15 h28
  text "17" at 66.18,-152.15 h28
  text "32" at 66.18,152.15 h28
  text "38" at -51.93,152.15 h28
  text "39" at -71.61,152.15 h28
  text "44" at -170.04,152.15 h28
  text "45" at -189.72,152.15 h28
  text "26" at 184.29,152.15 h28
  text "31" at 85.87,152.15 h28
  text "14" at 7.13,-152.15 h28
  text "28" at 144.92,152.15 h28
  text "23" at 184.29,-152.15 h28
  text "25" at 203.98,152.15 h28
Mechanical 16:
  drawing of 246 lines, arcs and shapes, not listed
Mechanical 17:
  text "240.16" at 473.5,-515 h36
  text "6.1" at 550,-415 h36
  text "496.06" at -776.5,-625 h36
  text "12.6" at -725.5,-525 h36
  text "19.69" at -501,-405 h36
  text "0.5" at -450,-305 h36
3D body: height 150, standoff 0, extent -248.03,-159.57 248.03,159.57

## SOT-23 [mil] "SOT-23"
pads (3):
  oval 48x20 smd: 1(-51.26,37.4) 2(-51.26,-37.4) 3(51.26,0)
Top Overlay:
  lines w10: -83.26,-55.4 -36.5,-55.4 -36.5,-64.06 36.5,-64.06 36.5,-18 83.26,-18 83.26,18 36.5,18 36.5,64.06 -36.5,64.06 -36.5,55.4 -83.26,55.4 -83.26,-55.4
Mechanical 15:
  text "1" at -51.26,26.2 h28
  text "3" at 51.26,-11.2 h28
  text "2" at -51.26,-48.6 h28
Mechanical 16:
  pour cut-out: 36.5,18 83.26,18 83.26,-18 36.5,-18 36.5,-64.06 -36.5,-64.06 -36.5,-55.4 -83.26,-55.4 -83.26,55.4 -36.5,55.4 -36.5,64.06 36.5,64.06
  region: -55.26,45.4 -31.5,45.4 -31.5,59.06 31.5,59.06 31.5,8 55.26,8 55.26,-8 31.5,-8 31.5,-59.06 -31.5,-59.06 -31.5,-45.4 -55.26,-45.4 -55.26,-29.4 -31.5,-29.4 -31.5,29.4 -55.26,29.4
  lines w1: -555,-620 -555,-639 -505,-639 -505,-620 ; -555,-340 -555,-321 -505,-321 -505,-340 ; -488.43,-59.06 -129.92,-59.06 ; -488.43,59.06 -129.92,59.06 ; -465,254.5 -465,235.5 -415,235.5 -415,254.5 ; -465,585.5 -465,604.5 -415,604.5 -415,585.5 ; -390,-374.02 -390,-59.06 ; -390,198 -390,59.06 ; -367.5,-480 -31.5,-480 ; -288.43,-37.4 -149.69,-37.4 ; -288.43,37.4 -149.69,37.4 ; -265,270 -265,251 -215,251 -215,270 ; -265,550 -265,569 -215,569 -215,550 ; -190,-352.36 -190,-37.4 ; -190,213.5 -190,37.4 ; -31.5,-578.43 -31.5,-157.48 ; 31.5,-578.43 31.5,-157.48 ; 47.17,37.4 288.43,37.4 ; 115,500 115,481 165,481 165,500 ; 115,780 115,799 165,799 165,780 ; 149.69,0 288.43,0 ; 190,-314.96 190,0 ; 190,443.5 190,37.4 ; 346.46,-480 31.5,-480 ; -390,-59.06 -365.39,-216.54 -414.61,-216.54 -390,-59.06 ; -390,59.06 -414.61,216.54 -365.39,216.54 -390,59.06 ; -190,-37.4 -165.39,-194.88 -214.61,-194.88 -190,-37.4 ; -190,37.4 -214.61,194.88 -165.39,194.88 -190,37.4 ; -31.5,-480 -188.98,-504.61 -188.98,-455.39 -31.5,-480 ; 31.5,-480 188.98,-455.39 188.98,-504.61 31.5,-480 ; 190,0 214.61,-157.48 165.39,-157.48 190,0 ; 190,37.4 165.39,194.88 214.61,194.88 190,37.4 ; -55.26,-45.4 -37.54,-45.4 -37.54,-29.4 -55.26,-29.4 -55.26,-45.4 ; -55.26,29.4 -37.54,29.4 -37.54,45.4 -55.26,45.4 -55.26,29.4 ; -31.5,-59.06 -31.5,59.06 31.5,59.06 31.5,-59.06 -31.5,-59.06 ; 37.54,-8 55.26,-8 55.26,8 37.54,8 37.54,-8
Mechanical 17:
  text "1.9" at -165,480 h36
  text "74.80" at -265,531 h36
  text "0.95" at 215,735.5 h36
  text "37.40" at 115,761 h36
  text "3" at -365,439 h36
  text "118.11" at -465,566.5 h36
  text "1.6" at -455,-410 h36
  text "62.99" at -555,-359 h36
3D body: height 150, standoff 0, extent -55.26,-59.06 55.26,59.06

## SOT-23_5P [mil] "SOT-23_5P"
pads (5):
  oval 21x44 smd: 1(-37.4,-53.23) 2(0,-53.23) 3(37.4,-53.23) 4(37.4,53.23) 5(-37.4,53.23)
Top Overlay:
  lines w10: -67.4,-113.23 -37.4,-83.23 -7.4,-113.23 -67.4,-113.23 ; -64.45,-36.99 -64.45,36.99 -55.9,36.99 -55.9,83.23 55.9,83.23 55.9,36.99 64.45,36.99 64.45,-36.99 55.9,-36.99 55.9,-83.23 -55.9,-83.23 -55.9,-36.99 -64.45,-36.99
Mechanical 15:
  text "4" at 48.6,53.23 h28
  text "5" at -26.2,53.23 h28
  text "2" at 11.2,-53.23 h28
  text "3" at 48.6,-53.23 h28
  text "1" at -26.2,-53.23 h28
Mechanical 16:
  pour cut-out: 55.9,83.23 55.9,36.99 64.45,36.99 64.45,-36.99 55.9,-36.99 55.9,-83.23 -55.9,-83.23 -55.9,-36.99 -64.45,-36.99 -64.45,36.99 -55.9,36.99 -55.9,83.23
  region: -45.8,-55.23 -45.8,-31.99 -59.45,-31.99 -59.45,31.99 -45.8,31.99 -45.8,55.23 -29,55.23 -29,31.99 29,31.99 29,55.23 45.8,55.23 45.8,31.99 59.45,31.99 59.45,-31.99 45.8,-31.99 45.8,-55.23 29,-55.23 29,-31.99 8.4,-31.99 8.4,-55.23 -8.4,-55.23 -8.4,-31.99 -29,-31.99 -29,-55.23
  lines w1: -571.5,-511 -590.5,-511 -590.5,-461 -571.5,-461 ; -553,-275 -572,-275 -572,-225 -553,-225 ; -273,-275 -254,-275 -254,-225 -273,-225 ; -240.5,-511 -221.5,-511 -221.5,-461 -240.5,-461 ; -216.5,-200 -37.4,-200 ; -184,-436 -59.45,-436 ; -59.45,-534.43 -59.45,-130.42 ; -37.4,-298.43 -37.4,-151.66 ; 0,-298.43 0,-151.66 ; 59.45,-534.43 59.45,-130.42 ; 157.88,-31.99 633.43,-31.99 ; 157.88,31.99 633.43,31.99 ; 314.96,-200 0,-200 ; 374.41,-436 59.45,-436 ; 395,-573 376,-573 376,-523 395,-523 ; 535,-385.5 535,-31.99 ; 535,346.95 535,31.99 ; 675,-573 694,-573 694,-523 675,-523 ; -59.45,-436 -216.93,-460.6 -216.93,-411.4 -59.45,-436 ; -37.4,-200 -194.88,-224.6 -194.88,-175.4 -37.4,-200 ; 0,-200 157.48,-175.4 157.48,-224.6 0,-200 ; 59.45,-436 216.93,-411.4 216.93,-460.6 59.45,-436 ; 535,-31.99 559.6,-189.47 510.4,-189.47 535,-31.99 ; 535,31.99 510.4,189.47 559.6,189.47 535,31.99 ; -59.45,-31.99 -59.45,31.99 59.45,31.99 59.45,-31.99 -59.45,-31.99 ; -45.8,-55.23 -45.8,-41.45 -29,-41.45 -29,-55.23 -45.8,-55.23 ; -45.8,41.45 -45.8,55.23 -29,55.23 -29,41.45 -45.8,41.45 ; -8.4,-55.23 -8.4,-41.45 8.4,-41.45 8.4,-55.23 -8.4,-55.23 ; 29,-55.23 29,-41.45 45.8,-41.45 45.8,-55.23 29,-55.23 ; 29,41.45 29,55.23 45.8,55.23 45.8,41.45 29,41.45
Mechanical 17:
  text "63.98" at 414,-573 h36
  text "1.63" at 439.5,-473 h36
  text "118.90" at -552.5,-511 h36
  text "3.02" at -501.5,-411 h36
  text "37.40" at -534,-275 h36
  text "0.95" at -508.5,-175 h36
3D body: height 150, standoff 0, extent -59.45,-55.23 59.45,55.23

## SW_2P_HDK632AR-ST_D [mil] "SW_2P_HDK632AR-ST_D"
pads (4):
  rect 56x56 / inner rect 52x52 / far side rect 56x56 hole 40: 1(-88.58,0)
  round 56 / inner round 52 / far side round 56 hole 40: 2(88.58,0)
  round 82 / inner round 64 / far side round 82 hole 52: 3(-137.8,98.43) 4(137.8,98.43)
Top Overlay:
  lines w10: -185.8,50.43 -185.8,146.43 -144.76,146.43 -144.76,162.48 144.76,162.48 144.76,146.43 185.8,146.43 185.8,50.43 144.76,50.43 144.76,-107.36 73.9,-107.36 73.9,-156.57 -73.9,-156.57 -73.9,-107.36 -144.76,-107.36 -144.76,50.43 -185.8,50.43
Mechanical 15:
  text "1" at -88.58,-10 h25
  text "2" at 88.58,-10 h25
  text "3" at -137.8,88.43 h25
  text "4" at 137.8,88.43 h25
Mechanical 16:
  pour cut-out: 144.76,162.48 144.76,147.43 186.8,147.43 186.8,49.43 144.76,49.43 144.76,-107.36 73.9,-107.36 73.9,-156.57 -73.9,-156.57 -73.9,-107.36 -144.76,-107.36 -144.76,49.43 -186.8,49.43 -186.8,147.43 -144.76,147.43 -144.76,162.48
  region: -68.9,-151.57 -68.9,-102.36 -139.76,-102.36 -139.76,157.48 139.76,157.48 139.76,-102.36 68.9,-102.36 68.9,-151.57
  lines w1: -1206.44,-605.51 -1225.43,-605.51 -1225.43,-555.51 -1206.44,-555.51 ; -1139.42,-151.57 -167.33,-151.57 ; -1139.42,0 -187.01,0 ; -1040.99,-418.01 -1040.99,-151.57 ; -1040.99,314.96 -1040.99,0 ; -938.86,-388.58 -957.85,-388.58 -957.85,-338.58 -938.86,-338.58 ; -875.55,-605.51 -856.56,-605.51 -856.56,-555.51 -875.55,-555.51 ; -607.97,-388.58 -588.98,-388.58 -588.98,-338.58 -607.97,-338.58 ; -595.45,185 -614.44,185 -614.44,235 -595.45,235 ; -595.45,385 -614.44,385 -614.44,435 -595.45,435 ; -551.48,-313.58 -139.76,-313.58 ; -264.56,185 -245.57,185 -245.57,235 -264.56,235 ; -264.56,385 -245.57,385 -245.57,435 -264.56,435 ; -208.07,260 -137.8,260 ; -208.07,460 -88.58,460 ; -139.76,-412.01 -139.76,59.05 ; -137.8,196.86 -137.8,358.43 ; -88.58,98.43 -88.58,558.43 ; 88.58,98.43 88.58,558.43 ; 137.8,196.86 137.8,358.43 ; 139.76,-412.01 139.76,59.05 ; 187.01,0 708.43,0 ; 236.23,98.43 708.43,98.43 ; 403.54,460 88.58,460 ; 452.76,260 137.8,260 ; 454.72,-313.58 139.76,-313.58 ; 470.04,-365 451.05,-365 451.05,-315 470.04,-315 ; 610,-177.5 610,0 ; 610,413.39 610,98.43 ; 749.95,-365 768.94,-365 768.94,-315 749.95,-315 ; -1040.99,-151.57 -1016.39,-309.05 -1065.59,-309.05 -1040.99,-151.57 ; -1040.99,0 -1065.59,157.48 -1016.39,157.48 -1040.99,0 ; -139.76,-313.58 -297.24,-338.18 -297.24,-288.98 -139.76,-313.58 ; -137.8,260 -295.28,235.4 -295.28,284.6 -137.8,260 ; -88.58,460 -246.06,435.4 -246.06,484.6 -88.58,460 ; 88.58,460 246.06,484.6 246.06,435.4 88.58,460 ; 137.8,260 295.28,284.6 295.28,235.4 137.8,260 ; 139.76,-313.58 297.24,-288.98 297.24,-338.18 139.76,-313.58 ; 610,0 634.6,-157.48 585.4,-157.48 610,0 ; 610,98.43 585.4,255.91 634.6,255.91 610,98.43 ; -139.76,-102.36 -139.76,157.48 139.76,157.48 139.76,-102.36 68.9,-102.36 68.9,-151.57 -68.9,-151.57 -68.9,-102.36 -139.76,-102.36
Mechanical 17:
  text "151.57" at -1187.44,-605.51 h50
  text "3.85" at -1136.46,-505.51 h50
  text "279.52" at -919.86,-388.58 h50
  text "7.1" at -843.39,-288.58 h50
  text "98.43" at 489.04,-365 h50
  text "2.5" at 540.02,-265 h50
  text "177.16" at -576.45,385 h50
  text "4.5" at -499.98,485 h50
  text "275.60" at -576.45,185 h50
  text "7" at -449,285 h50
Mechanical 21:
  text ".Designator" at 0,-90.8 h28
3D body: height 150, standoff 0, extent -139.76,-151.57 139.76,157.48

## SW_2X2P_100_198X378 [mil] "SW_2X2P_100_198X378"
pads (4):
  oval 45x130 smd: 1(-50,-155.51) 2(50,-155.51) 3(50,155.51) 4(-50,155.51)
Top Overlay:
  lines w10: -134,-205 -134,-145 -104,-175 -134,-205 ; -105.12,-198.82 -105.12,-66.27 -52.1,-66.27 -52.1,66.27 -105.12,66.27 -105.12,198.82 -80.5,198.82 -80.5,228.51 80.5,228.51 80.5,198.82 105.12,198.82 105.12,-198.82 80.5,-198.82 80.5,-228.51 -80.5,-228.51 -80.5,-198.82 -105.12,-198.82
Mechanical 15:
  text "2" at 61.2,-155.51 h28
  text "1" at -38.8,-155.51 h28
  text "4" at -38.8,155.51 h28
  text "3" at 61.2,155.51 h28
Mechanical 16:
  pour cut-out: -80.5,203.82 -80.5,228.51 80.5,228.51 80.5,203.82 110.12,203.82 110.12,-203.82 80.5,-203.82 80.5,-228.51 -80.5,-228.51 -80.5,-203.82 -110.12,-203.82 -110.12,203.82
  region: -105.12,-198.82 105.12,-198.82 105.12,198.82 -105.12,198.82
  lines w1: -615.5,-425 -634.5,-425 -634.5,-375 -615.5,-375 ; -284.5,-425 -265.5,-425 -265.5,-375 -284.5,-375 ; -228,-350 -50,-350 ; -50,-450 -50,-255.51 ; 50,-450 50,-255.51 ; 150,-155.51 560,-155.51 ; 150,155.51 560,155.51 ; 294.5,-625 275.5,-625 275.5,-575 294.5,-575 ; 350,-350 50,-350 ; 460,-437.5 460,-155.51 ; 460,455.51 460,155.51 ; 625.5,-625 644.5,-625 644.5,-575 625.5,-575 ; -50,-350 -200,-375 -200,-325 -50,-350 ; 50,-350 200,-325 200,-375 50,-350 ; 460,-155.51 485,-305.51 435,-305.51 460,-155.51 ; 460,155.51 435,305.51 485,305.51 460,155.51 ; -105.12,-198.82 105.12,-198.82 105.12,198.82 -105.12,198.82 -105.12,-198.82
Mechanical 17:
  text "311.02" at 313.5,-625 h36
  text "7.9" at 390,-525 h36
  text "100.00" at -596.5,-425 h36
  text "2.54" at -545.5,-325 h36
Mechanical 21:
  text ".Designator" at 43.6,33.34 h28
3D body: height 150, standoff 0, extent -105.12,-198.82 105.12,198.82

## SW_4X2P_100_398X378 [mil] "SW_4X2P_100_398X378"
pads (8):
  oval 45x130 smd: 1(-150,-155.51) 2(-50,-155.51) 3(50,-155.51) 4(150,-155.51) 5(150,155.51) 6(50,155.51) 7(-50,155.51) 8(-150,155.51)
Top Overlay:
  lines w10: -210.12,-140.83 -180.5,-140.83 -180.5,-228.51 180.5,-228.51 180.5,-140.83 210.12,-140.83 210.12,140.83 180.5,140.83 180.5,228.51 -180.5,228.51 -180.5,140.83 -210.12,140.83 -210.12,46.94 -172.57,46.94 -172.57,-46.94 -210.12,-46.94 -210.12,-140.83
Mechanical 15:
  text "1" at -138.8,-155.51 h28
  text "2" at -38.8,-155.51 h28
  text "3" at 61.2,-155.51 h28
  text "4" at 161.2,-155.51 h28
  text "8" at -138.8,155.51 h28
  text "7" at -38.8,155.51 h28
  text "6" at 61.2,155.51 h28
  text "5" at 161.2,155.51 h28
Mechanical 16:
  region: -205.12,-135.83 205.12,-135.83 205.12,135.83 -205.12,135.83
  pour cut-out: 180.5,228.51 180.5,140.83 210.12,140.83 210.12,-140.83 180.5,-140.83 180.5,-228.51 -180.5,-228.51 -180.5,-140.83 -210.12,-140.83 -210.12,140.83 -180.5,140.83 -180.5,228.51
  lines w1: -805.5,-705 -824.5,-705 -824.5,-655 -805.5,-655 ; -765.5,-475 -784.5,-475 -784.5,-425 -765.5,-425 ; -474.5,-705 -455.5,-705 -455.5,-655 -474.5,-655 ; -434.5,-475 -415.5,-475 -415.5,-425 -434.5,-425 ; -418,-630 -205.12,-630 ; -378,-400 -50,-400 ; -205.12,-728.43 -205.12,-234.26 ; -50,-498.43 -50,-253.94 ; 50,-498.43 50,-253.94 ; 205.12,-728.43 205.12,-234.26 ; 303.55,-135.83 638.43,-135.83 ; 303.55,135.83 638.43,135.83 ; 364.96,-400 50,-400 ; 374.5,-655 355.5,-655 355.5,-605 374.5,-605 ; 540,-467.5 540,-135.83 ; 540,450.79 540,135.83 ; 705.5,-655 724.5,-655 724.5,-605 705.5,-605 ; -205.12,-630 -47.64,-654.6 -47.64,-605.4 -205.12,-630 ; -205.12,-630 205.12,-630 ; -50,-400 -207.48,-375.4 -207.48,-424.6 -50,-400 ; 50,-400 207.48,-424.6 207.48,-375.4 50,-400 ; 205.12,-630 47.64,-605.4 47.64,-654.6 205.12,-630 ; 540,-135.83 515.4,-293.31 564.6,-293.31 540,-135.83 ; 540,135.83 564.6,293.31 515.4,293.31 540,135.83 ; -205.12,-135.83 205.12,-135.83 205.12,135.83 -205.12,135.83 -205.12,-135.83
Mechanical 17:
  text "2.54" at -695.5,-375 h36
  text "100.00" at -746.5,-475 h36
  text "10.42" at -761,-605 h36
  text "410.24" at -786.5,-705 h36
  text "6.9" at 470,-555 h36
  text "271.66" at 393.5,-655 h36
Mechanical 21:
  text ".Designator" at 33.6,13.5 h28
3D body: height 150, standoff 0, extent -205.12,-135.83 205.12,135.83

## TP-S40 [mil] "TP-S40"
pads (1):
  round 40 smd: 1(0,0)
Top Overlay:
  text ".Designator" at -9.6,34 h36
Mechanical 15:
  text "1" at -11.2,0 h28
Mechanical 16:
  circle w1: c0,0 r40.46
  circle w1: c0,0 r40.45
  lines w1: -20,-20 20,-20 ; -20,-20 -20,20 ; -20,-20 20,-20 ; -20,-20 -20,20 ; -20,20 20,20 ; -20,20 20,20 ; 20,-20 20,20 ; 20,-20 20,20

## WHL3V-2M [mil] "WHL3V-2M"
pads (3):
  rect 54x54 / inner rect 50x50 / far side rect 54x54 hole 38: 1(0,0)
  round 54 / inner round 50 / far side round 54 hole 38: 2(-78.74,0) 3(-157.48,0)
Top Overlay:
  lines w10: -246.14,-75.87 -246.14,119.17 88.66,119.17 88.66,-75.87 -40,-75.87 -40,-50 -120,-50 -120,-75.87 -246.14,-75.87 ; -21.1,144.8 18.9,144.8 -1.1,124.8 -21.1,144.8
  text ".Designator" at -302,162.6 h36
Mechanical 15:
  text "2" at -78.74,11.2 h28
  text "1" at 0,11.2 h28
  text "3" at -157.48,11.2 h28
Mechanical 16:
  pour cut-out: -246.14,-75.87 88.66,-75.87 88.66,119.17 -246.14,119.17
  region: -241.14,-70.87 83.66,-70.87 83.66,114.17 -241.14,114.17
  lines w1: -551.18,-759.8 -236.22,-759.8 ; -236.22,-858.23 -236.22,-169.3 ; -100,0 100,0 ; 0,-100 0,100 ; 78.74,-858.23 78.74,-169.3 ; 98.43,0 564.13,0 ; 177.17,114.17 970.43,114.17 ; 250.4,-759.8 78.74,-759.8 ; 306.9,-834.8 287.9,-834.8 287.9,-784.8 306.9,-784.8 ; 325.7,-586.7 306.7,-586.7 306.7,-536.7 325.7,-536.7 ; 465.7,-399.2 465.7,-70.87 ; 465.7,314.96 465.7,0 ; 564.13,-70.87 177.17,-70.87 970.43,-70.87 ; 605.7,-586.7 624.7,-586.7 624.7,-536.7 605.7,-536.7 ; 637.9,-834.8 656.9,-834.8 656.9,-784.8 637.9,-784.8 ; 706.5,-585 687.5,-585 687.5,-535 706.5,-535 ; 872,-397.5 872,-70.87 ; 872,429.13 872,114.17 ; 1037.5,-585 1056.5,-585 1056.5,-535 1037.5,-535 ; -236.22,-759.8 -393.7,-784.4 -393.7,-735.2 -236.22,-759.8 ; 78.74,-759.8 236.22,-735.2 236.22,-784.4 78.74,-759.8 ; 465.7,-70.87 490.3,-228.35 441.1,-228.35 465.7,-70.87 ; 465.7,0 441.1,157.48 490.3,157.48 465.7,0 ; 872,-70.87 896.6,-228.35 847.4,-228.35 872,-70.87 ; 872,114.17 847.4,271.65 896.6,271.65 872,114.17 ; -241.14,-70.87 83.66,-70.87 83.66,114.17 -241.14,114.17 -241.14,-70.87
Mechanical 17:
  text "1.8" at 395.7,-486.7 h36
  text "70.87" at 344.7,-586.7 h36
  text "8" at 453.4,-734.8 h36
  text "314.96" at 325.9,-834.8 h36
  text "4.7" at 802,-485 h36
  text "185.04" at 725.5,-585 h36
3D body: height 150, standoff 0, extent -241.14,-70.87 83.66,114.17

## WHP3VA [mil] "WHP3VA"
pads (3):
  rect 62x62 / inner rect 58x58 / far side rect 62x62 hole 46: 1(-200,0)
  round 62 / inner round 58 / far side round 62 hole 46: 2(-100,0) 3(0,0)
Top Overlay:
  lines w10: -255,-75.87 55,-75.87 ; -255,-115.24 55,-115.24 55,115.24 -255,115.24 -255,-115.24 ; -224.7,-143.1 -204.7,-123.1 -184.7,-143.1 -224.7,-143.1
Mechanical 15:
  text "2" at -90,0 h25
  text "1" at -190,0 h25
  text "3" at 10,0 h25
Mechanical 16:
  pour cut-out: -255,-115.24 55,-115.24 55,115.24 -255,115.24
  region: -250,-110.24 50,-110.24 50,110.24 -250,110.24
  lines w1: -934.7,-550.5 -953.7,-550.5 -953.7,-500.5 -934.7,-500.5 ; -603.7,-550.5 -584.7,-550.5 -584.7,-500.5 -603.7,-500.5 ; -547.2,-475.5 -250,-475.5 ; -250,-573.93 -250,-208.67 ; -100,0 100,0 ; 0,-100 0,100 ; 50,-573.93 50,-208.67 ; 148.43,-110.24 868.23,-110.24 ; 148.43,110.24 868.23,110.24 ; 364.96,-475.5 50,-475.5 ; 604.3,-547.6 585.3,-547.6 585.3,-497.6 604.3,-497.6 ; 769.8,-360.1 769.8,-110.24 ; 769.8,425.2 769.8,110.24 ; 935.3,-547.6 954.3,-547.6 954.3,-497.6 935.3,-497.6 ; -250,-475.5 -407.48,-500.1 -407.48,-450.9 -250,-475.5 ; 50,-475.5 207.48,-450.9 207.48,-500.1 50,-475.5 ; 769.8,-110.24 794.4,-267.72 745.2,-267.72 769.8,-110.24 ; 769.8,110.24 745.2,267.72 794.4,267.72 769.8,110.24 ; -250,-110.24 -250,110.24 50,110.24 50,-110.24 -250,-110.24
Mechanical 17:
  text "220.48" at 623.3,-547.6 h50
  text "5.6" at 699.8,-447.6 h50
  text "300.00" at -915.7,-550.5 h50
  text "7.62" at -864.7,-450.5 h50
Mechanical 21:
  text ".Designator" at -38.2,24.34 h28
3D body: height 150, standoff 0, extent -250,-110.24 50,110.24

## XTAL_2P_161_205X134_H59 [mil] "XTAL_2P_161_205X134_H59"
pads (2):
  rect 67x79 smd: 1(-80.65,0) 2(80.65,0)
Top Overlay:
  lines w10: -122.15,-47.5 -122.15,47.5 -107.36,47.5 -107.36,71.93 107.36,71.93 107.36,47.5 122.15,47.5 122.15,-47.5 107.36,-47.5 107.36,-71.93 -107.36,-71.93 -107.36,-47.5 -122.15,-47.5
Mechanical 15:
  text "1" at -80.65,11.2 h28
  text "2" at 80.65,11.2 h28
Mechanical 16:
  pour cut-out: 107.36,71.93 107.36,47.5 122.15,47.5 122.15,-47.5 107.36,-47.5 107.36,-71.93 -107.36,-71.93 -107.36,-47.5 -122.15,-47.5 -122.15,47.5 -107.36,47.5 -107.36,71.93
  region: -102.36,-66.93 102.36,-66.93 102.36,66.93 -102.36,66.93
  lines w1: -785.5,-875 -804.5,-875 -804.5,-825 -785.5,-825 ; -785.5,-645 -804.5,-645 -804.5,-595 -785.5,-595 ; -454.5,-875 -435.5,-875 -435.5,-825 -454.5,-825 ; -454.5,-645 -435.5,-645 -435.5,-595 -454.5,-595 ; -398,-800 -102.36,-800 ; -398,-570 -80.65,-570 ; -102.36,-898.43 -102.36,-165.35 ; -80.65,-668.43 -80.65,-98.43 ; 80.65,-668.43 80.65,-98.43 ; 102.36,-898.43 102.36,-165.35 ; 200.79,-66.93 898.43,-66.93 ; 200.79,66.93 898.43,66.93 ; 395.61,-570 80.65,-570 ; 417.32,-800 102.36,-800 ; 634.5,-615 615.5,-615 615.5,-565 634.5,-565 ; 800,-427.5 800,-66.93 ; 800,381.89 800,66.93 ; 965.5,-615 984.5,-615 984.5,-565 965.5,-565 ; -102.36,-800 -259.84,-824.61 -259.84,-775.39 -102.36,-800 ; -80.65,-570 -238.13,-594.61 -238.13,-545.39 -80.65,-570 ; 80.65,-570 238.13,-545.39 238.13,-594.61 80.65,-570 ; 102.36,-800 259.84,-775.39 259.84,-824.61 102.36,-800 ; 800,-66.93 824.61,-224.41 775.39,-224.41 800,-66.93 ; 800,66.93 775.39,224.41 824.61,224.41 800,66.93 ; -102.36,-66.93 -102.36,66.93 102.36,66.93 102.36,-66.93 -102.36,-66.93 ; -100,0 100,0 -100,0 ; 0,-100 0,100 0,-100
Mechanical 17:
  text "133.86" at 653.5,-615 h36
  text "3.4" at 730,-515 h36
  text "204.72" at -766.5,-875 h36
  text "5.2" at -690,-775 h36
  text "161.29" at -766.5,-645 h36
  text "4.1" at -690,-545 h36
Mechanical 21:
  text ".Designator" at -22.34,28.4 h28
3D body: height 150, standoff 0, extent -102.36,-66.93 102.36,66.93